# EAGLE library part 686110148922 (library Eagle_FPC_CONNECTOR_AND_FFC_CAB (rev18c))
WR-FPC 1mm SMT Horiz. Bot. Contact Hinge type WR-FPC 1mm 10 pins Hinge type SMT Horizontal Bottom Contact ;=>Code : Con_FPC_ZIF_1.00_6861xx148922_686110148922 <http://katalog.we-online.de/media/images/eican/Con_FPC_ZIF_1.00_686110148922_pf2.jpg> Details see: http://katalog.we-online.de/em/datasheet/6861xx148922.pdf Created 2014-10-08, Karrer Zheng 2014 (C) Wurth Elektronik
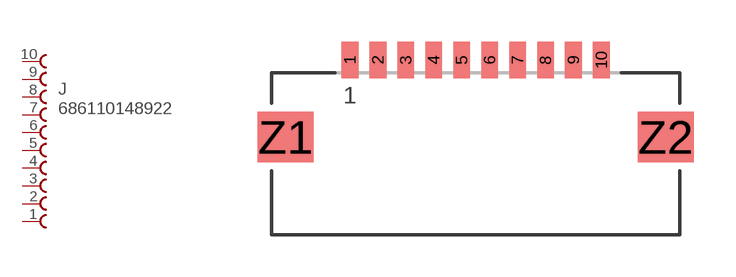
[diagram p92: symbol with the pads of 686110148922; footprint 686110148922]

Designator prefix J

## 686110148922  [686110148922]
1  10  pas
2  9  pas
3  8  pas
4  7  pas
5  6  pas
6  5  pas
7  4  pas
8  3  pas
9  2  pas
10  1  pas

## Footprint 686110148922 (pad centres in mm)
WR-FPC 1mm SMT Horiz. Bot. Contact Hinge type WR-FPC 1mm 10pins Hinge type SMT Horizontal Bottom Contact
smd 0.6 x 1.3: 1 -4.5,2.75; 2 -3.5,2.75; 3 -2.5,2.75; 4 -1.5,2.75; 5 -0.5,2.75; 6 0.5,2.75; 7 1.5,2.75; 8 2.5,2.75; 9 3.5,2.75; 10 4.5,2.75
smd 2 x 1.8: Z1 -6.8,0; Z2 6.8,0